# Altium schematic symbol library 150080SS75000.SchLib: 1 symbol
Pins are listed as number, name and electrical type; pins without a type are passive.

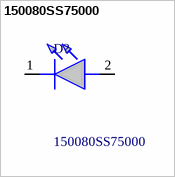
[diagram p0: symbol 150080SS75000]

## 150080SS75000
designator D?
WL-SMCW SMT Mono-Color Chip LED Waterclear 0805, Super Red Typ.(@20mA): 630nm, 60mcd, 1.9V, 140 AlInGaP; Manufacturer_Name: Wurth Elektronik; Geometry.Height: 0.7mm; Manufacturer_Part_Number: 150080SS75000; Mouser Part Number: 710-150080SS75000; Mouser Price/Stock: https://www.mouser.co.uk/ProductDetail/Wurth-Elektronik/150080SS75000?qs=LlUlMxKIyB2zzpiaOzrUdw%3D%3D; Arrow Part Number: *; Arrow Price/Stock: *; Datasheet Link: https://www.we-online.com/catalog/datasheet/150080SS75000.pdf
footprint 150080SS75000
pins: 1 K, 2 A